# Altium footprint library Diodes.PcbLib: 20 footprints (part 2 of 2)
Each footprint in its own frame and in the unit in brackets; x right, y up, seen from the top. Pads: shape width x height; smd on the part's side, far side on the other; paste and mask are expansions set on the pad; w line width, h text height; cw(c..) or ccw(c..) is an arc to the next point about the centre after c.
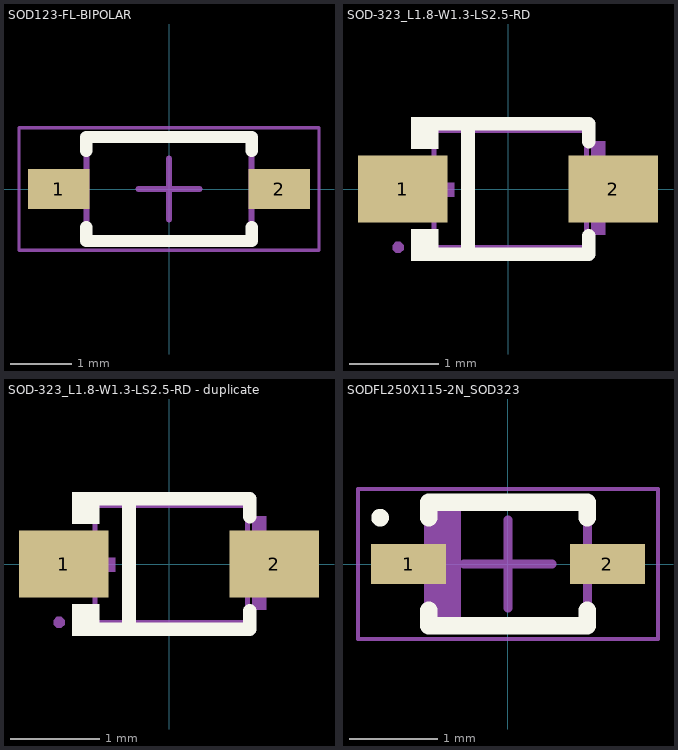
[diagram p1: the footprints below, top view; thin cyan lines are the x and y axes]

## SOD123-FL-BIPOLAR [mm] "SODFL, 2-Leads, Body 1.60x3.70mm, IPC Medium Density"
height 1.15
pads (2):
  rect 1x0.65 smd: 1(-1.8,0) 2(1.8,0)
Top Overlay:
  lines w0.2: -1.35,-0.625 -1.35,-0.85 1.35,-0.85 1.35,-0.625 ; -1.35,0.625 -1.35,0.85 1.35,0.85 1.35,0.625
Mechanical 13:
  lines w0.1: -1.35,-0.825 1.35,-0.825 1.35,0.825 -1.35,0.825 -1.35,-0.825
Mechanical 15:
  lines w0.05: -2.45,-1 2.45,-1 2.45,1 -2.45,1 -2.45,-1
  lines w0.1: -0.5,0 0.5,0 ; 0,-0.5 0,0.5
3D body "User Library-SOD-123FL CASE 498.STEP": height 0.95, standoff 0, extent -1.8,-0.825 1.8,0.825

## SOD-323_L1.8-W1.3-LS2.5-RD [mm]
pads (2):
  rect 1x0.75 smd: 1(-1.173,0) 2(1.173,0)
Top Overlay:
  region: -0.775,0.802 -0.775,0.45 -1.08,0.45 -1.08,0.802
  region: -0.775,-0.802 -0.775,-0.45 -1.08,-0.45 -1.08,-0.802
  lines w0.152: -0.851,-0.726 0.901,-0.726 0.901,-0.52 ; -0.851,0.726 0.901,0.726 0.901,0.53 ; -0.447,-0.726 -0.447,0.726
Mechanical 6:
  region: -1.225,0.07 -1.225,-0.086 -0.601,-0.086 -0.601,0.07
  region: 1.315,0.09 1.315,-0.066 0.691,-0.066 0.691,0.09
  region: 1.083,0.53 1.083,-0.51 0.927,-0.51 0.927,0.53
Mechanical 15:
  region: -1.165,-0.65 -1.165,-0.625 -1.2,-0.59 -1.25,-0.59 -1.285,-0.625 -1.285,-0.65 -1.285,-0.675 -1.25,-0.71 -1.2,-0.71 -1.165,-0.675 -1.165,-0.65
  region: 1.275,0.16 1.275,-0.16 0.975,-0.16 0.975,0.16
  region: 0.985,0.16 0.985,-0.16 0.865,-0.16 0.865,0.16
  region: -0.925,0.16 -0.925,-0.16 -1.225,-0.16 -1.225,0.16
  region: -0.815,0.16 -0.815,-0.16 -0.935,-0.16 -0.935,0.16
  lines w0.051: -0.825,-0.65 0.875,-0.65 0.875,0.65 -0.825,0.65 -0.825,-0.65

## SOD-323_L1.8-W1.3-LS2.5-RD - duplicate [mm]
pads (2):
  rect 1x0.75 smd: 1(-1.173,0) 2(1.173,0)
Top Overlay:
  region: -0.775,0.802 -0.775,0.45 -1.08,0.45 -1.08,0.802
  region: -0.775,-0.802 -0.775,-0.45 -1.08,-0.45 -1.08,-0.802
  lines w0.152: -0.851,-0.726 0.901,-0.726 0.901,-0.52 ; -0.851,0.726 0.901,0.726 0.901,0.53 ; -0.447,-0.726 -0.447,0.726
Mechanical 6:
  region: -1.225,0.07 -1.225,-0.086 -0.601,-0.086 -0.601,0.07
  region: 1.315,0.09 1.315,-0.066 0.691,-0.066 0.691,0.09
  region: 1.083,0.53 1.083,-0.51 0.927,-0.51 0.927,0.53
Mechanical 15:
  region: -1.165,-0.65 -1.165,-0.625 -1.2,-0.59 -1.25,-0.59 -1.285,-0.625 -1.285,-0.65 -1.285,-0.675 -1.25,-0.71 -1.2,-0.71 -1.165,-0.675 -1.165,-0.65
  region: 1.275,0.16 1.275,-0.16 0.975,-0.16 0.975,0.16
  region: 0.985,0.16 0.985,-0.16 0.865,-0.16 0.865,0.16
  region: -0.925,0.16 -0.925,-0.16 -1.225,-0.16 -1.225,0.16
  region: -0.815,0.16 -0.815,-0.16 -0.935,-0.16 -0.935,0.16
  lines w0.051: -0.825,-0.65 0.875,-0.65 0.875,0.65 -0.825,0.65 -0.825,-0.65

## SODFL250X115-2N_SOD323 [mm] "SODFL, 2-Leads, Body 1.25x2.50mm, IPC Medium Density"
height 1.15
pads (2):
  rect 0.85x0.45 smd: 1(-1.125,0) 2(1.125,0)
Top Overlay:
  circle w0.1: c-1.45,0.525 r0.05
  lines w0.2: -0.9,-0.525 -0.9,-0.7 0.9,-0.7 0.9,-0.525 ; -0.9,0.525 -0.9,0.7 0.9,0.7 0.9,0.525
Mechanical 13:
  rectangle: -0.9,-0.675 -0.535,0.675
  lines w0.1: -0.9,-0.675 0.9,-0.675 0.9,0.675 -0.9,0.675 -0.9,-0.675
Mechanical 15:
  lines w0.05: -1.7,-0.85 1.7,-0.85 1.7,0.85 -1.7,0.85 -1.7,-0.85
  lines w0.1: -0.5,0 0.5,0 ; 0,-0.5 0,0.5
3D body "SOD-323.STEP": height 1.17, standoff 0.02, extent -1.35,-0.723 1.35,0.723